# EAGLE library part 2-1571552-4 (library 16-Dip Socket)
Row Spacing 2.54 mm Pitch Through Hole Dip Socket Check prices <https://pricing.snapeda.com/parts/2-1571552-4/TE%20Connectivity/view-part?ref=eda>
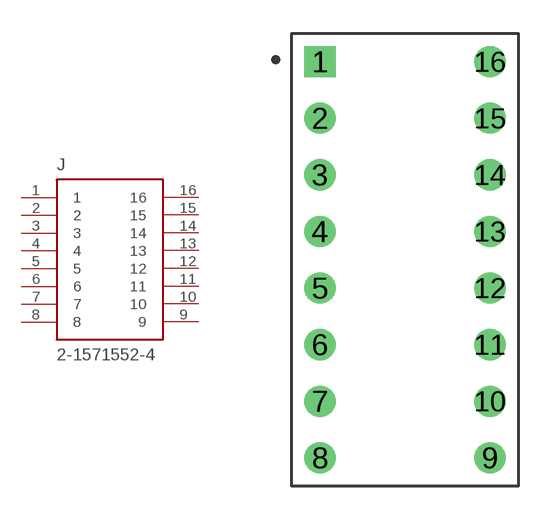
[diagram p0: symbol with the pads of TE_2-1571552-4; footprint TE_2-1571552-4]

Designator prefix J

## 2-1571552-4 (Availability: In Stock; Comment: 2-1571552-4; Contact_Current_Rating_Max: 3 A; Description: 16 (2 x 8) Pos DIP, 0.3 (7.62mm) Row Spacing Socket Gold Through Hole; EU_RoHS_Compliance: Compliant with Exemptions; MF: TE Connectivity; MP: 2-1571552-4; Package: None; Price: None; Product_Type: Socket)  [TE_2-1571552-4]
1  1  pas
2  2  pas
3  3  pas
4  4  pas
5  5  pas
6  6  pas
7  7  pas
8  8  pas
9  9  pas
10  10  pas
11  11  pas
12  12  pas
13  13  pas
14  14  pas
15  15  pas
16  16  pas

## Footprint TE_2-1571552-4 (pad centres in mm)
drill 0.889 square: 1 -3.81,8.89
drill 0.889: 2 -3.81,6.35; 3 -3.81,3.81; 4 -3.81,1.27; 5 -3.81,-1.27; 6 -3.81,-3.81; 7 -3.81,-6.35; 8 -3.81,-8.89; 9 3.81,-8.89; 10 3.81,-6.35; 11 3.81,-3.81; 12 3.81,-1.27; 13 3.81,1.27; 14 3.81,3.81; 15 3.81,6.35; 16 3.81,8.89